# Altium schematic symbol library CONN - Sockets.SchLib: 2 symbols
Pins are listed as number, name and electrical type; pins without a type are passive.

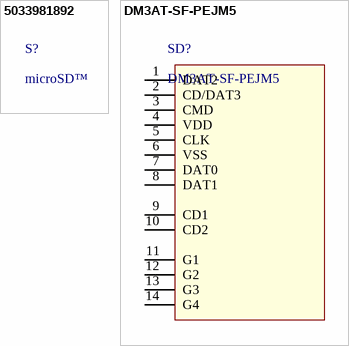
[diagram p0: symbols 5033981892 to DM3AT-SF-PEJM5]

## 5033981892
designator S?, comment microSD™
MICRO SD PUSH/PUSH SMALL 8C; Manufacturer: Molex, LLC; Manufacturer Part Number: 5033981892; Number of Positions: 9 (8 + 1); Connector Type: Connector and Ejector; Insertion, Removal Method: Push In, Push Out; Supplier 1: Digi-Key; Supplier Part Number 1: WM11190CT-ND; RoHS: RoHS Compliant; Category: Connectors, Interconnects; Stock 1: 5330; Pricing 1: 1=2.97, 10=2.853, 25=2.6152, 50=2.4962, 100=2.3773, 250=2.08016, 500=2.02072, 1000=1.72356 (USD); Packaging: Cut Tape (CT); Part Status: Active; Card Type: microSD™; Ejector Side: -; Mounting Type: Surface Mount, Right Angle; Features: Switch; Height Above Board: 0.050" (1.28mm); Mounting Feature: Normal, Standard - Top; Contact Finish: Gold; Contact Finish Thickness: 19.7µin (0.50µm); ComponentLink1URL: http://www.molex.com/pdm_docs/sd/5033981892_sd.pdf; ComponentLink1Description: http://www.molex.com/pdm_docs/sd/5033981892_sd.pdf

## DM3AT-SF-PEJM5
designator SD?
CONN MICRO SD CARD PUSH-PUSH R/A; Manufacturer: Hirose Electric Co Ltd; Card Type: Secure Digital - microSD™; Number of Positions: 10 (8 + 2); Connector Type: Connector and Ejector; Insertion, Removal Method: Push In, Push Out; Supplier 1: Digi-Key; Supplier Part Number 1: HR1964CT-ND; Manufacturer Part Number: DM3AT-SF-PEJM5; RoHS: RoHS Compliant; Category: Connectors, Interconnects; Stock 1: 25778; Pricing 1: 1=2.88, 10=2.614, 25=2.454, 50=2.3474, 100=2.2407, 250=2.02732, 500=1.86726 (USD); Packaging: Cut Tape (CT); Part Status: Active; Ejector Side: -; Mounting Type: Surface Mount, Right Angle; Features: Switch; Height Above Board: 0.066" (1.68mm); Mounting Feature: Normal, Standard - Top; Contact Finish: Gold; Contact Finish Thickness: -; ComponentLink1URL: https://www.hirose.com/product/download/?distributor=digikey&type=2d&lang=en&num=DM3AT-SF-PEJM7; ComponentLink1Description: https://www.hirose.com/product/download/?distributor=digikey&type=2d&lang=en&num=DM3AT-SF-PEJM7
footprint CON/SD/Micro/DM3AT-SF-PEJM5
pins: 1 DAT2, 2 CD/DAT3, 3 CMD, 4 VDD, 5 CLK, 6 VSS, 7 DAT0, 8 DAT1, 9 CD1, 10 CD2, 11 G1, 12 G2, 13 G3, 14 G4